# Altium schematic symbol library TXC CRYSTAL 9C.SchLib: 1 symbol
Pins are listed as number, name and electrical type; pins without a type are passive.

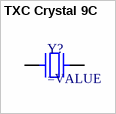
[diagram p0: symbol TXC Crystal 9C]

## TXC Crystal 9C
designator Y?
SMT Crystal
pins: 1, 2